# Altium footprint library Power.PcbLib: 1 footprints
Each footprint in its own frame and in the unit in brackets; x right, y up, seen from the top. Pads: shape width x height; smd on the part's side, far side on the other; paste and mask are expansions set on the pad; w line width, h text height; cw(c..) or ccw(c..) is an arc to the next point about the centre after c.
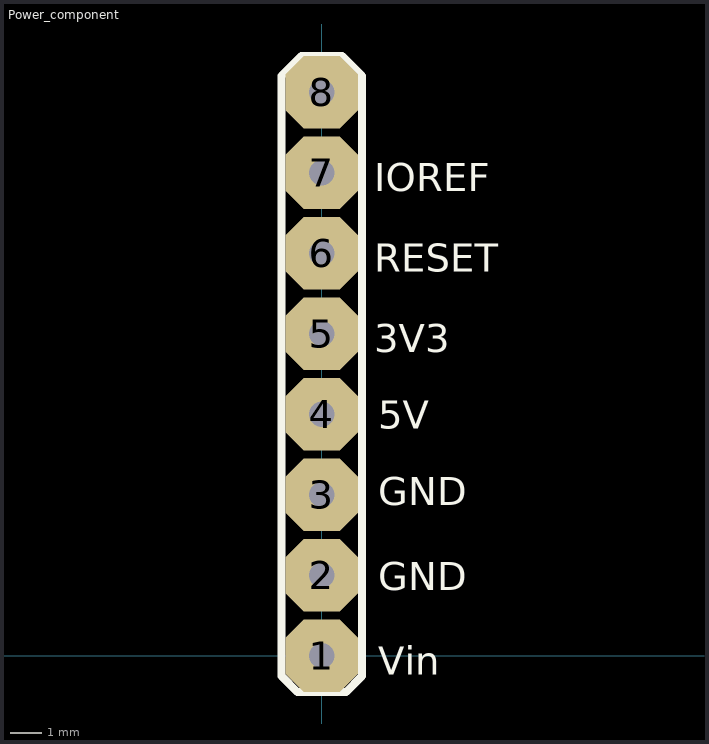
[diagram p0: the footprint, top view; thin cyan lines are the x and y axes]

## Power_component [mil]
pads (8):
  oct 90x90 hole 31.5: 1(0,0) 2(0,100) 3(0,200) 4(0,300) 5(0,400) 6(0,500) 7(0,600) 8(0,700)
Top Overlay:
  lines w10: -50,-25 -30,-45 20,-45 30,-45 50,-25 50,720 25,745 -25,745 -50,720 -50,-25
  text "IOREF" at 65,565 h60
  text "RESET" at 65,465 h60
  text "3V3" at 65,365 h60
  text "5V" at 70,270 h60
  text "GND" at 70,175 h60
  text "GND" at 70,70 h60
  text "Vin" at 70,-35 h60